# EAGLE library part IND_78253 (library graftel-internal-ic)
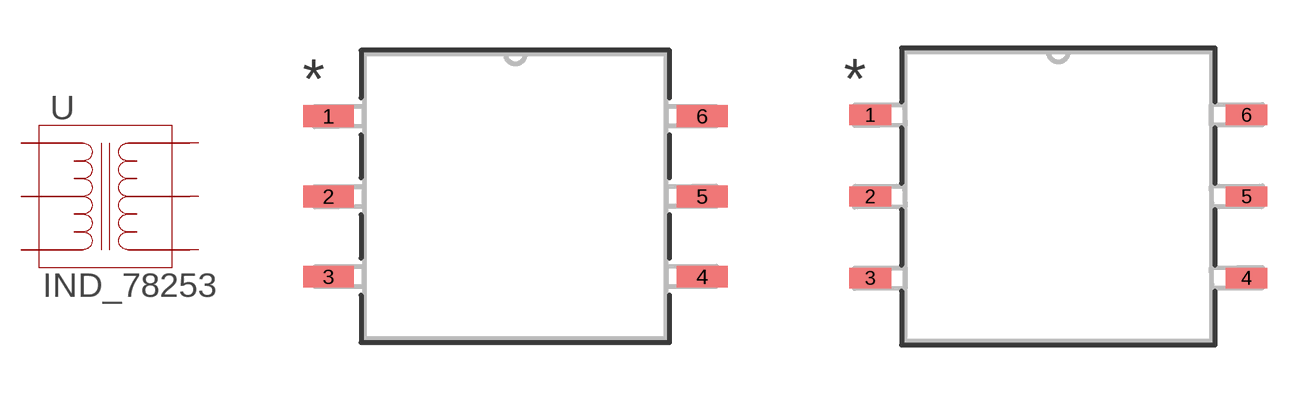
[diagram p93: symbol with the pads of IND_78253_SERIES_SO_MUR; footprints IND_78253_SERIES_SO_MUR, IND_78253_SERIES_SO_MUR-L]

Designator prefix -

## IND_78253  [IND_78253_SERIES_SO_MUR]
1  1  pas
2  2  pas
3  3  pas
4  4  pas
5  5  pas
6  6  pas

## IND_78253L  [IND_78253_SERIES_SO_MUR-L]
Pads as for IND_78253_SERIES_SO_MUR

## IND_78253M  [IND_78253_SERIES_SO_MUR-M]
Pads as for IND_78253_SERIES_SO_MUR

## Footprint IND_78253_SERIES_SO_MUR (pad centres in mm)
smd 1.6 x 0.686: 1 -5.905,2.54; 2 -5.905,0; 3 -5.905,-2.54; 4 5.905,-2.54; 5 5.905,0; 6 5.905,2.54

## Footprint IND_78253_SERIES_SO_MUR-L (pad centres in mm)
smd 1.295 x 0.635: 1 -5.855,2.54; 2 -5.855,0; 3 -5.855,-2.54; 4 5.855,-2.54; 5 5.855,0; 6 5.855,2.54

## Footprint IND_78253_SERIES_SO_MUR-M (pad centres in mm)
smd 1.905 x 0.686: 1 -5.956,2.54; 2 -5.956,0; 3 -5.956,-2.54; 4 5.956,-2.54; 5 5.956,0; 6 5.956,2.54